# EAGLE library part LCMXO2-CN1 (library PartsForProto)
LCMX02変換基板用I/Fピン-1
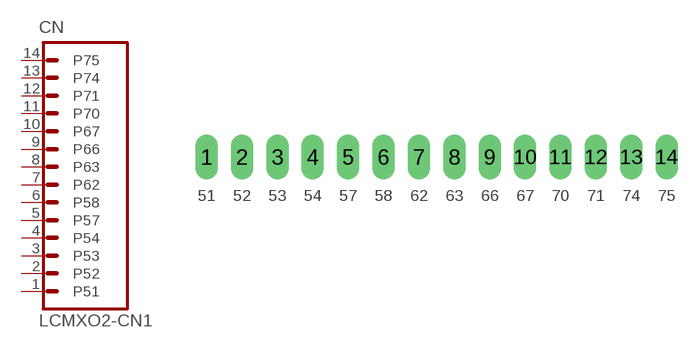
[diagram p4: symbol with the pads of LCMXO2-CN-1; footprint LCMXO2-CN-1]

Designator prefix CN

## LCMXO2-CN1  [LCMXO2-CN-1]
1  P51
2  P52
3  P53
4  P54
5  P57
6  P58
7  P62
8  P63
9  P66
10  P67
11  P70
12  P71
13  P74
14  P75

## Footprint LCMXO2-CN-1 (pad centres in mm)
PIN HEADER
drill 1 pad 1.6 long: 1 0,0; 2 2.54,0; 3 5.08,0; 4 7.62,0; 5 10.16,0; 6 12.7,0; 7 15.24,0; 8 17.78,0; 9 20.32,0; 10 22.86,0; 11 25.4,0; 12 27.94,0; 13 30.48,0; 14 33.02,0